# Altium schematic symbol library STM32N6.SchLib: 2 symbols
Pins are listed as number, name and electrical type; pins without a type are passive.

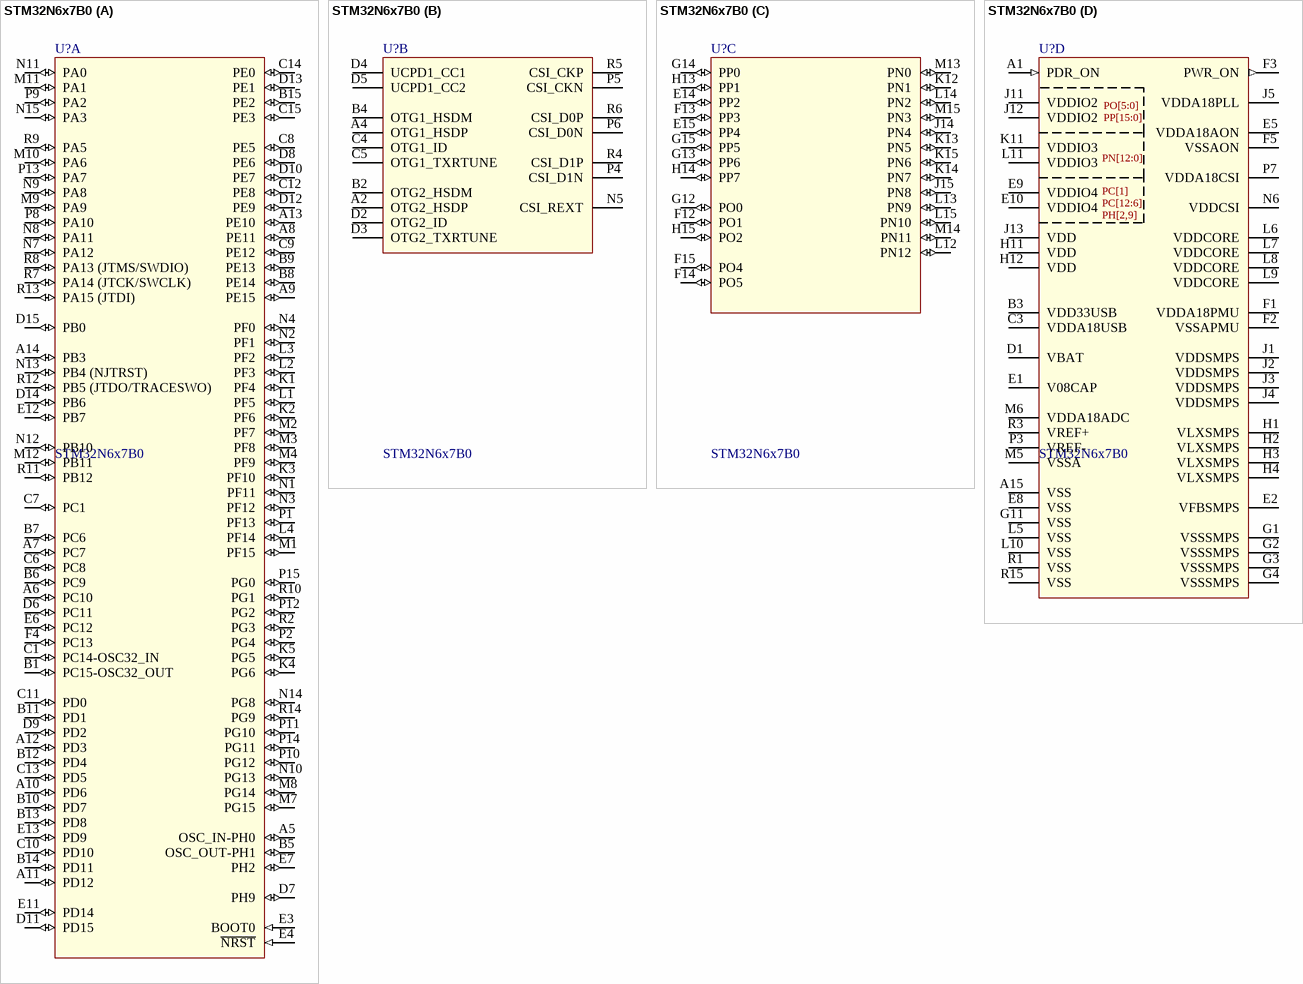
[diagram p0: symbol STM32N6x7B0]

## STM32N6x7B0
designator U?
High performance Arm Cortex-M55 MCU, 800MHz, 4.2MB SRAM, Neural-ART accelerator 600 GOPS, NeoChrom GPU, JPEG Codec, H-264 enc; Value: STM32N6x7B0
footprint VFBGA-198 (B0GJ) (VFBGA, 198-Leads, Body 10.00x10.00mmx1.00mm, Pitch 0.65mm)
part A pins: A5 OSC_IN-PH0 (io), A6 PC10 (io), A7 PC7 (io), A8 PE11 (io), A9 PE15 (io), A10 PD6 (io), A11 PD12 (io), A12 PD3 (io), A13 PE10 (io), A14 PB3 (io), B1 PC15-OSC32_OUT (io), B5 OSC_OUT-PH1 (io), B6 PC9 (io), B7 PC6 (io), B8 PE14 (io), B9 PE13 (io), B10 PD7 (io), B11 PD1 (io), B12 PD4 (io), B13 PD8 (io), B14 PD11 (io), B15 PE2 (io), C1 PC14-OSC32_IN (io), C6 PC8 (io), C7 PC1 (io), C8 PE5 (io), C9 PE12 (io), C10 PD10 (io), C11 PD0 (io), C12 PE8 (io), C13 PD5 (io), C14 PE0 (io), C15 PE3 (io), D6 PC11 (io), D7 PH9 (io), D8 PE6 (io), D9 PD2 (io), D10 PE7 (io), D11 PD15 (io), D12 PE9 (io), D13 PE1 (io), D14 PB6 (io), D15 PB0 (io), E3 BOOT0 (in), E4 ~{NRST} (in), E6 PC12 (io), E7 PH2 (io), E11 PD14 (io), E12 PB7 (io), E13 PD9 (io), F4 PC13 (io), K1 PF4 (io), K2 PF6 (io), K3 PF10 (io), K4 PG6 (io), K5 PG5 (io), L1 PF5 (io), L2 PF3 (io), L3 PF2 (io), L4 PF14 (io), M1 PF15 (io), M2 PF7 (io), M3 PF8 (io), M4 PF9 (io), M7 PG15 (io), M8 PG14 (io), M9 PA9 (io), M10 PA6 (io), M11 PA1 (io), M12 PB11 (io), N1 PF11 (io), N2 PF1 (io), N3 PF12 (io), N4 PF0 (io), N7 PA12 (io), N8 PA11 (io), N9 PA8 (io), N10 PG13 (io), N11 PA0 (io), N12 PB10 (io), N13 PB4 (NJTRST) (io), N14 PG8 (io), N15 PA3 (io), P1 PF13 (io), P2 PG4 (io), P8 PA10 (io), P9 PA2 (io), P10 PG12 (io), P11 PG10 (io), P12 PG2 (io), P13 PA7 (io), P14 PG11 (io), P15 PG0 (io), R2 PG3 (io), R7 PA14 (JTCK/SWCLK) (io), R8 PA13 (JTMS/SWDIO) (io), R9 PA5 (io), R10 PG1 (io), R11 PB12 (io), R12 PB5 (JTDO/TRACESWO) (io), R13 PA15 (JTDI) (io), R14 PG9 (io)
part B pins: A2 OTG2_HSDP, A4 OTG1_HSDP, B2 OTG2_HSDM, B4 OTG1_HSDM, C4 OTG1_ID, C5 OTG1_TXRTUNE, D2 OTG2_ID, D3 OTG2_TXRTUNE, D4 UCPD1_CC1, D5 UCPD1_CC2, N5 CSI_REXT, P4 CSI_D1N, P5 CSI_CKN, P6 CSI_D0N, R4 CSI_D1P, R5 CSI_CKP, R6 CSI_D0P
part C pins: E14 PP2 (io), E15 PP4 (io), F12 PO1 (io), F13 PP3 (io), F14 PO5 (io), F15 PO4 (io), G12 PO0 (io), G13 PP6 (io), G14 PP0 (io), G15 PP5 (io), H13 PP1 (io), H14 PP7 (io), H15 PO2 (io), J14 PN4 (io), J15 PN8 (io), K12 PN1 (io), K13 PN5 (io), K14 PN7 (io), K15 PN6 (io), L12 PN12 (io), L13 PN9 (io), L14 PN2 (io), L15 PN10 (io), M13 PN0 (io), M14 PN11 (io), M15 PN3 (io)
part D pins: A1 PDR_ON (in), A15 VSS (power), B3 VDD33USB (power), C3 VDDA18USB (power), D1 VBAT (power), E1 V08CAP, E2 VFBSMPS, E5 VDDA18AON (power), E8 VSS (power), E9 VDDIO4 (power), E10 VDDIO4 (power), F1 VDDA18PMU (power), F2 VSSAPMU (power), F3 PWR_ON (out), F5 VSSAON (power), G1 VSSSMPS (power), G2 VSSSMPS (power), G3 VSSSMPS (power), G4 VSSSMPS (power), G11 VSS (power), H1 VLXSMPS (power), H2 VLXSMPS (power), H3 VLXSMPS (power), H4 VLXSMPS (power), H11 VDD (power), H12 VDD (power), J1 VDDSMPS (power), J2 VDDSMPS (power), J3 VDDSMPS (power), J4 VDDSMPS (power), J5 VDDA18PLL (power), J11 VDDIO2 (power), J12 VDDIO2 (power), J13 VDD (power), K11 VDDIO3 (power), L5 VSS (power), L6 VDDCORE (power), L7 VDDCORE (power), L8 VDDCORE (power), L9 VDDCORE (power), L10 VSS (power), L11 VDDIO3 (power), M5 VSSA (power), M6 VDDA18ADC (power), N6 VDDCSI (power), P3 VREF- (power), P7 VDDA18CSI (power), R1 VSS (power), R3 VREF+, R15 VSS (power)
part D text: PO[5:0] / PP[15:0]; PN[12:0]; PC[1] / PC[12:6] / PH[2,9]

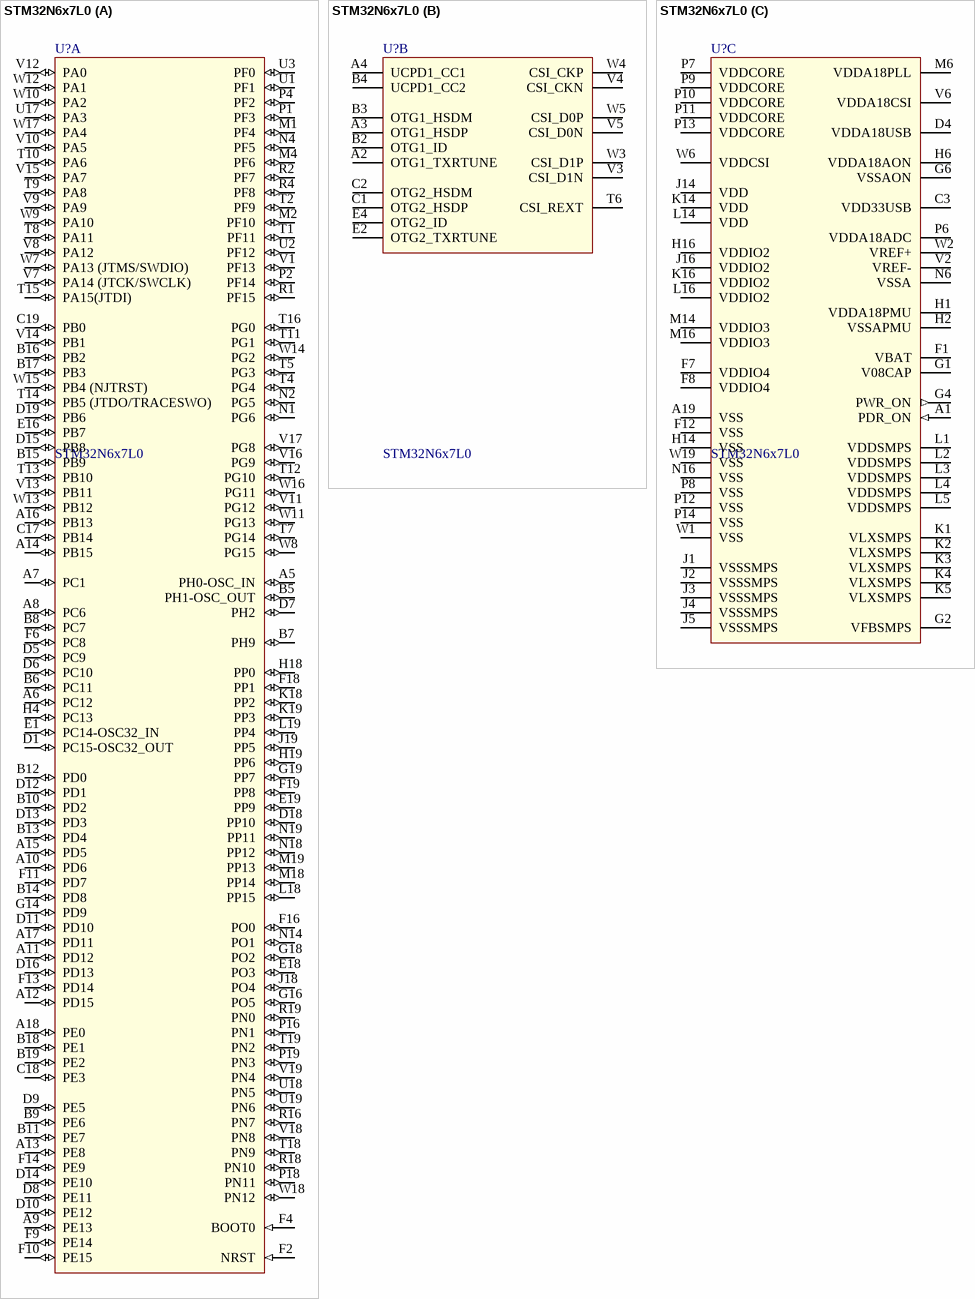
[diagram p1: symbol STM32N6x7L0]

## STM32N6x7L0
designator U?
Value: STM32N6x7L0
footprint VFBGA-223 (B0GK) (VFBGA, 223-Leads, Body 10.00x10.00mmx1.00mm, Pitch 0.50mm)
part A pins: A5 PH0-OSC_IN (io), A6 PC12 (io), A7 PC1 (io), A8 PC6 (io), A9 PE13 (io), A10 PD6 (io), A11 PD12 (io), A12 PD15 (io), A13 PE8 (io), A14 PB15 (io), A15 PD5 (io), A16 PB13 (io), A17 PD11 (io), A18 PE0 (io), B5 PH1-OSC_OUT (io), B6 PC11 (io), B7 PH9 (io), B8 PC7 (io), B9 PE6 (io), B10 PD2 (io), B11 PE7 (io), B12 PD0 (io), B13 PD4 (io), B14 PD8 (io), B15 PB9 (io), B16 PB2 (io), B17 PB3 (io), B18 PE1 (io), B19 PE2 (io), C17 PB14 (io), C18 PE3 (io), C19 PB0 (io), D1 PC15-OSC32_OUT (io), D5 PC9 (io), D6 PC10 (io), D7 PH2 (io), D8 PE11 (io), D9 PE5 (io), D10 PE12 (io), D11 PD10 (io), D12 PD1 (io), D13 PD3 (io), D14 PE10 (io), D15 PB8 (io), D16 PD13 (io), D18 PP10 (io), D19 PB6 (io), E1 PC14-OSC32_IN (io), E16 PB7 (io), E18 PO3 (io), E19 PP9 (io), F2 NRST (in), F4 BOOT0 (in), F6 PC8 (io), F9 PE14 (io), F10 PE15 (io), F11 PD7 (io), F13 PD14 (io), F14 PE9 (io), F16 PO0 (io), F18 PP1 (io), F19 PP8 (io), G14 PD9 (io), G16 PO5 (io), G18 PO2 (io), G19 PP7 (io), H4 PC13 (io), H18 PP0 (io), H19 PP6 (io), J18 PO4 (io), J19 PP5 (io), K18 PP2 (io), K19 PP3 (io), L18 PP15 (io), L19 PP4 (io), M1 PF4 (io), M2 PF10 (io), M4 PF6 (io), M18 PP14 (io), M19 PP13 (io), N1 PG6 (io), N2 PG5 (io), N4 PF5 (io), N14 PO1 (io), N18 PP12 (io), N19 PP11 (io), P1 PF3 (io), P2 PF14 (io), P4 PF2 (io), P16 PN1 (io), P18 PN11 (io), P19 PN3 (io), R1 PF15 (io), R2 PF7 (io), R4 PF8 (io), R16 PN7 (io), R18 PN10 (io), R19 PN0 (io), T1 PF11 (io), T2 PF9 (io), T4 PG4 (io), T5 PG3 (io), T7 PG14 (io), T8 PA11 (io), T9 PA8 (io), T10 PA6 (io), T11 PG1 (io), T12 PG10 (io), T13 PB10 (io), T14 PB5 (JTDO/TRACESWO) (io), T15 PA15(JTDI) (io), T16 PG0 (io), T18 PN9 (io), T19 PN2 (io), U1 PF1 (io), U2 PF12 (io), U3 PF0 (io), U17 PA3 (io), U18 PN5 (io), U19 PN6 (io), V1 PF13 (io), V7 PA14 (JTCK/SWCLK) (io), V8 PA12 (io), V9 PA9 (io), V10 PA5 (io), V11 PG12 (io), V12 PA0 (io), V13 PB11 (io), V14 PB1 (io), V15 PA7 (io), V16 PG9 (io), V17 PG8 (io), V18 PN8 (io), V19 PN4 (io), W7 PA13 (JTMS/SWDIO) (io), W8 PG15 (io), W9 PA10 (io), W10 PA2 (io), W11 PG13 (io), W12 PA1 (io), W13 PB12 (io), W14 PG2 (io), W15 PB4 (NJTRST) (io), W16 PG11 (io), W17 PA4 (io), W18 PN12 (io)
part B pins: A2 OTG1_TXRTUNE, A3 OTG1_HSDP, A4 UCPD1_CC1, B2 OTG1_ID, B3 OTG1_HSDM, B4 UCPD1_CC2, C1 OTG2_HSDP, C2 OTG2_HSDM, E2 OTG2_TXRTUNE, E4 OTG2_ID, T6 CSI_REXT, V3 CSI_D1N, V4 CSI_CKN, V5 CSI_D0N, W3 CSI_D1P, W4 CSI_CKP, W5 CSI_D0P
part C pins: A1 PDR_ON (in), A19 VSS (power), C3 VDD33USB (power), D4 VDDA18USB (power), F1 VBAT (power), F7 VDDIO4 (power), F8 VDDIO4 (power), F12 VSS (power), G1 V08CAP (power), G2 VFBSMPS (power), G4 PWR_ON (out), G6 VSSAON (power), H1 VDDA18PMU (power), H2 VSSAPMU (power), H6 VDDA18AON (power), H14 VSS (power), H16 VDDIO2 (power), J1 VSSSMPS (power), J2 VSSSMPS (power), J3 VSSSMPS (power), J4 VSSSMPS (power), J5 VSSSMPS (power), J14 VDD (power), J16 VDDIO2 (power), K1 VLXSMPS (power), K2 VLXSMPS (power), K3 VLXSMPS (power), K4 VLXSMPS (power), K5 VLXSMPS (power), K14 VDD (power), K16 VDDIO2 (power), L1 VDDSMPS (power), L2 VDDSMPS (power), L3 VDDSMPS (power), L4 VDDSMPS, L5 VDDSMPS (power), L14 VDD (power), L16 VDDIO2 (power), M6 VDDA18PLL (power), M14 VDDIO3 (power), M16 VDDIO3 (power), N6 VSSA (power), N16 VSS (power), P6 VDDA18ADC (power), P7 VDDCORE (power), P8 VSS (power), P9 VDDCORE (power), P10 VDDCORE (power), P11 VDDCORE (power), P12 VSS (power), P13 VDDCORE (power), P14 VSS (power), V2 VREF- (power), V6 VDDA18CSI (power), W1 VSS (power), W2 VREF+ (power), W6 VDDCSI (power), W19 VSS (power)